# Altium footprint library RPSLib_ElectroMechanical.PcbLib: 54 footprints (part 3 of 4)
Each footprint in its own frame and in the unit in brackets; x right, y up, seen from the top. Pads: shape width x height; smd on the part's side, far side on the other; paste and mask are expansions set on the pad; w line width, h text height; cw(c..) or ccw(c..) is an arc to the next point about the centre after c.
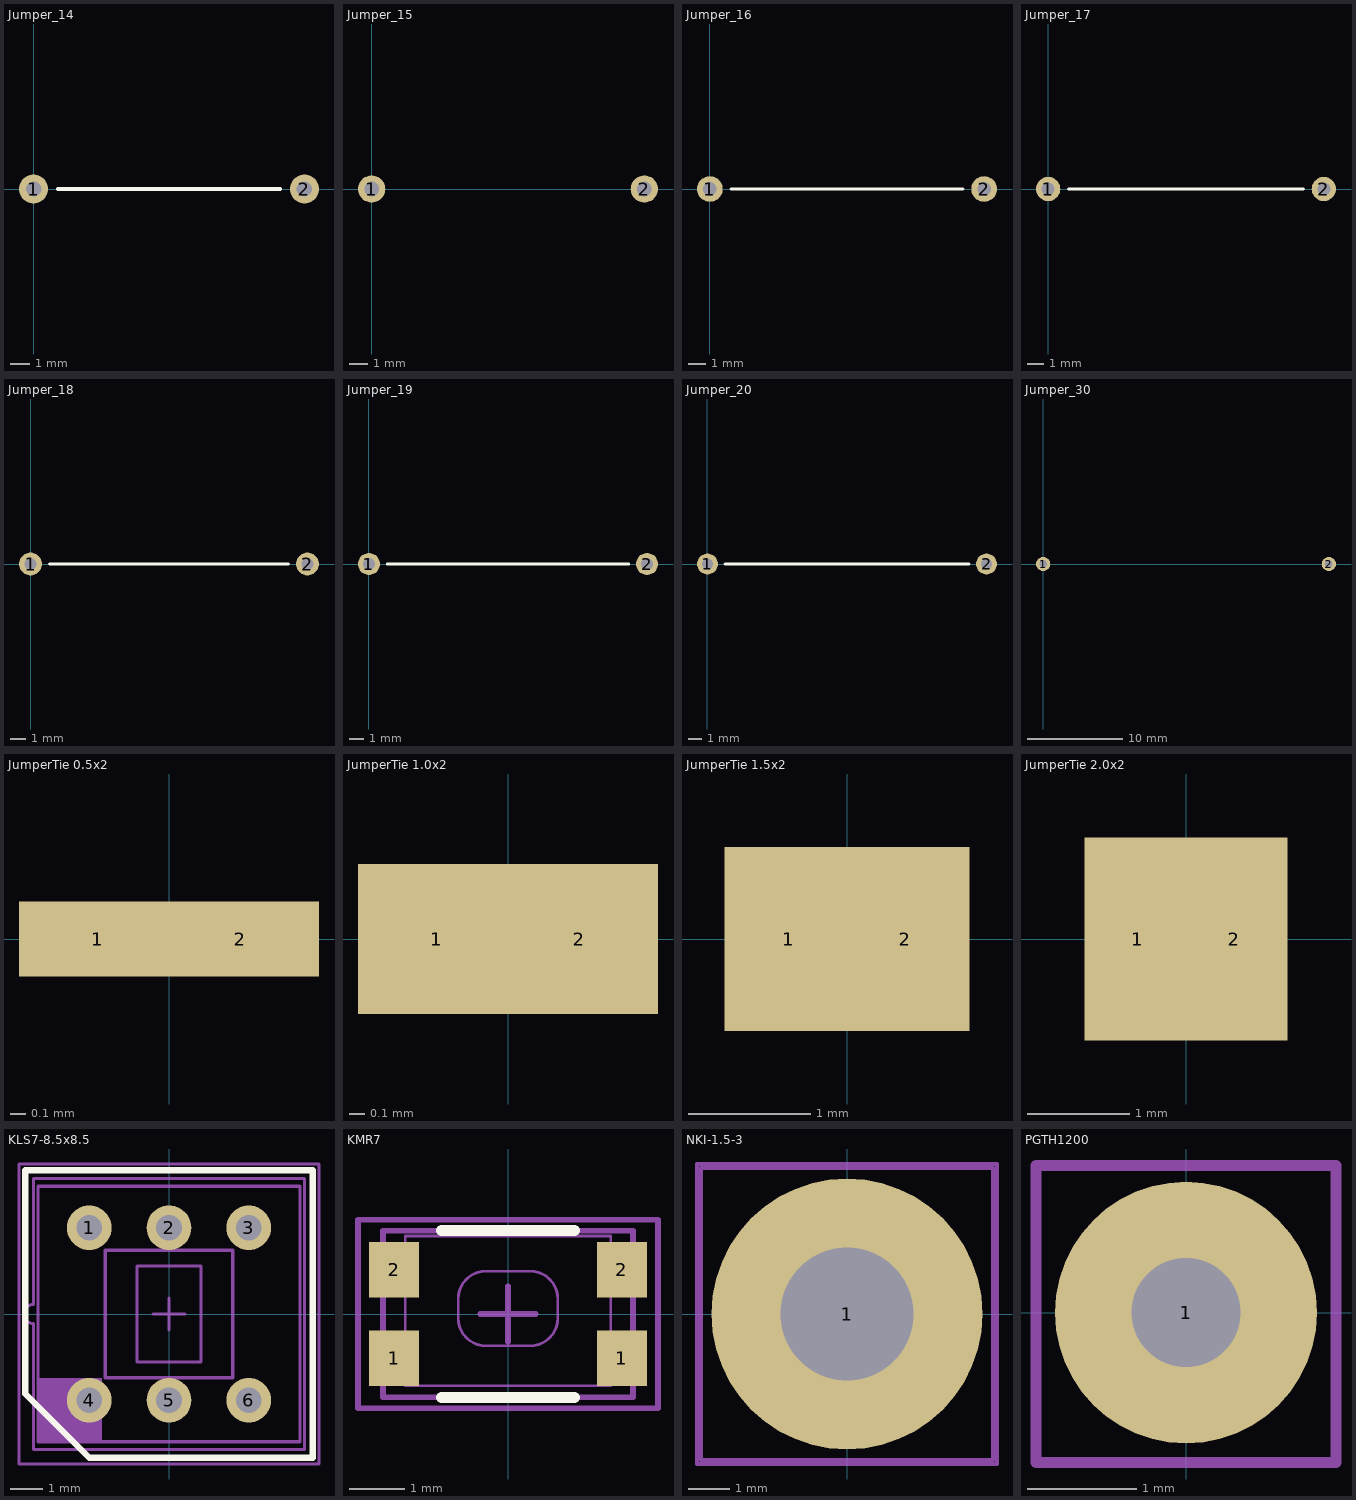
[diagram p2: the footprints below, top view; thin cyan lines are the x and y axes]

## Jumper_14 [mm]
height 0.5
pads (2):
  round 1.5 hole 0.8: 1(0,0) 2(14,0)
Top Overlay:
  lines w0.2: 1.25,0 12.75,0

## Jumper_15 [mm]
height 0.5
pads (2):
  round 1.5 hole 0.8: 1(0,0) 2(15,0)

## Jumper_16 [mm]
height 0.5
pads (2):
  round 1.5 hole 0.8: 1(0,0) 2(16,0)
Top Overlay:
  lines w0.2: 1.25,0 14.75,0

## Jumper_17 [mm]
height 0.5
pads (2):
  round 1.5 hole 0.8: 1(0,0) 2(17,0)
Top Overlay:
  lines w0.2: 1.25,0 15.75,0

## Jumper_18 [mm]
height 0.5
pads (2):
  round 1.5 hole 0.8: 1(0,0) 2(18,0)
Top Overlay:
  lines w0.2: 1.25,0 16.75,0

## Jumper_19 [mm]
height 0.5
pads (2):
  round 1.5 hole 0.8: 1(0,0) 2(19,0)
Top Overlay:
  lines w0.2: 1.25,0 17.75,0

## Jumper_20 [mm]
height 0.5
pads (2):
  round 1.5 hole 0.8: 1(0,0) 2(20,0)
Top Overlay:
  lines w0.2: 1.25,0 18.75,0

## Jumper_30 [mm] "Перемычка 30 мм отверстия"
height 0.5
pads (2):
  round 1.5 hole 0.8: 1(0,0) 2(30,0)

## JumperTie 0.5x2 [mm] "Перемычка 0.5х2 мм"
pads (2):
  rect 1.05x0.5 smd mask+0.07: 1(-0.475,0) 2(0.475,0)

## JumperTie 1.0x2 [mm] "Перемычка 1.0х2 мм"
pads (2):
  rect 1.05x1 smd mask+0.07: 1(-0.475,0) 2(0.475,0)

## JumperTie 1.5x2 [mm] "Перемычка 1.5х2 мм"
pads (2):
  rect 1.05x1.5 smd mask+0.07: 1(-0.475,0) 2(0.475,0)

## JumperTie 2.0x2 [mm] "Перемычка 2.0х2 мм"
pads (2):
  rect 1.05x2 smd mask+0.07: 1(-0.475,0) 2(0.475,0)

## KLS7-8.5x8.5 [mm] "Standard Vertical Push Switch Series"
height 14
pads (6):
  round 1.4 hole 0.8 mask+0.07: 1(-2.5,2.7) 2(0,2.7) 3(2.5,2.7) 4(-2.5,-2.7) 5(0,-2.7) 6(2.5,-2.7)
Top Overlay:
  lines w0.2: -4.5,-2.5 -4.5,4.5 4.5,4.5 4.5,-4.5 -2.5,-4.5 -4.5,-2.5
Mechanical 1:
  rectangle: -4.1,-4 -2.1,-2
  lines w0.1: -4.1,-4 4.1,-4 4.1,4 -4.1,4 -4.1,-4
  text ".Designator" at -2.253,-0.226 h1
Mechanical 13:
  lines w0.1: -4.25,-4.25 -4.25,-0.3 cw(c-4.25,0) -4.25,0.3 -4.25,4.25 4.25,4.25 4.25,-4.25 -4.25,-4.25 ; -2,-2 -2,2 2,2 2,-2 -2,-2 ; -1,-1.5 1,-1.5 1,1.5 -1,1.5 -1,-1.5
Mechanical 15:
  lines w0.1: -0.5,0 0.5,0 ; 0,-0.5 0,0.5 ; -4.7,-4.7 -4.7,4.7 4.7,4.7 4.7,-4.7 -4.7,-4.7
3D body "KLS7-8.5x8.5.stp": height 14, standoff -3.5, extent -4.55,-4.25 4.25,4.25

## KMR7 [mm] "Tactile button"
height 2.5
pads (4):
  rect 0.9x1 smd mask+0.07: 1(-2.05,-0.8) 1(2.05,-0.8) 2(-2.05,0.8) 2(2.05,0.8)
Top Overlay:
  lines w0.2: -1.2,-1.5 1.2,-1.5 ; -1.2,1.5 1.2,1.5
Mechanical 1:
  lines w0.1: -2.25,-1.5 2.25,-1.5 2.25,1.5 -2.25,1.5 -2.25,-1.5
  text ".Designator" at -1.126,-0.113 h0.5
Mechanical 13:
  lines w0.05: -1.85,-1.093 -2.3,-1.093 -2.3,-0.494 -1.85,-0.494 ; -1.85,0.506 -2.3,0.506 -2.3,1.105 -1.85,1.105 ; 1.85,-1.093 2.3,-1.093 2.3,-0.494 1.85,-0.494 ; 1.85,0.506 2.3,0.506 2.3,1.105 1.85,1.105 ; -1.85,-1.293 1.85,-1.293 1.85,1.405 -1.85,1.405 -1.85,-1.293 ; -0.897,-0.073 ccw(c-0.397,-0.073) -0.397,-0.573 0.397,-0.573 ccw(c0.397,-0.073) 0.897,-0.073 0.897,0.271 ccw(c0.397,0.271) 0.397,0.771 -0.397,0.771 ccw(c-0.397,0.271) -0.897,0.271 -0.897,-0.073
Mechanical 15:
  lines w0.1: -0.5,0 0.5,0 ; 0,-0.5 0,0.5 ; -2.7,-1.7 -2.7,1.7 2.7,1.7 2.7,-1.7 -2.7,-1.7
3D body "KMR7.stp": height 2.54, standoff -0.06, extent -2.3,-1.399 2.3,1.451

## NKI-1.5-3 [mm] "Площадка под наконечник НКИ-1,5-3"
pads (1):
  round 6.5 hole 3.2: 1(0,0)
Mechanical 1:
  lines w0.1: -3.5,-3.5 -3.5,3.5 3.5,3.5 3.5,-3.5 -3.5,-3.5
  text ".Designator" at -1.126,-0.113 h0.5
Mechanical 15:
  lines w0.1: -0.5,0 0.5,0 ; 0,-0.5 0,0.5 ; -3.6,-3.6 -3.6,3.6 3.6,3.6 3.6,-3.6 -3.6,-3.6
3D body "НКИ-1,5-3.stp": height 3.4, standoff -0.5, extent -2.741,-15.95 2.741,2.75

## PGTH1200 [mm] "Pogo pin 12mm heigth"
height 12
pads (1):
  round 2.4 hole 1: 1(0,0)
Mechanical 1:
  lines w0.1: -1.375,-1.375 1.375,-1.375 1.375,1.35 -1.375,1.35 -1.375,-1.375
  text ".Designator" at -1.126,-0.113 h0.5
Mechanical 13:
  circle w0.1: c0,0 r1
  circle w0.1: c0,0 r0.45
Mechanical 15:
  lines w0.1: -0.5,0 0.5,0 ; 0,-0.5 0,0.5 ; -1.375,-1.375 -1.375,1.35 1.375,1.35 1.375,-1.375 -1.375,-1.375
3D body "Pogo12.stp": height 12, standoff -2, extent -0.992,-0.998 1,0.998